# Altium schematic symbol library IC Analog.SchLib: 75 symbols
Pins are listed as number, name and electrical type; pins without a type are passive.

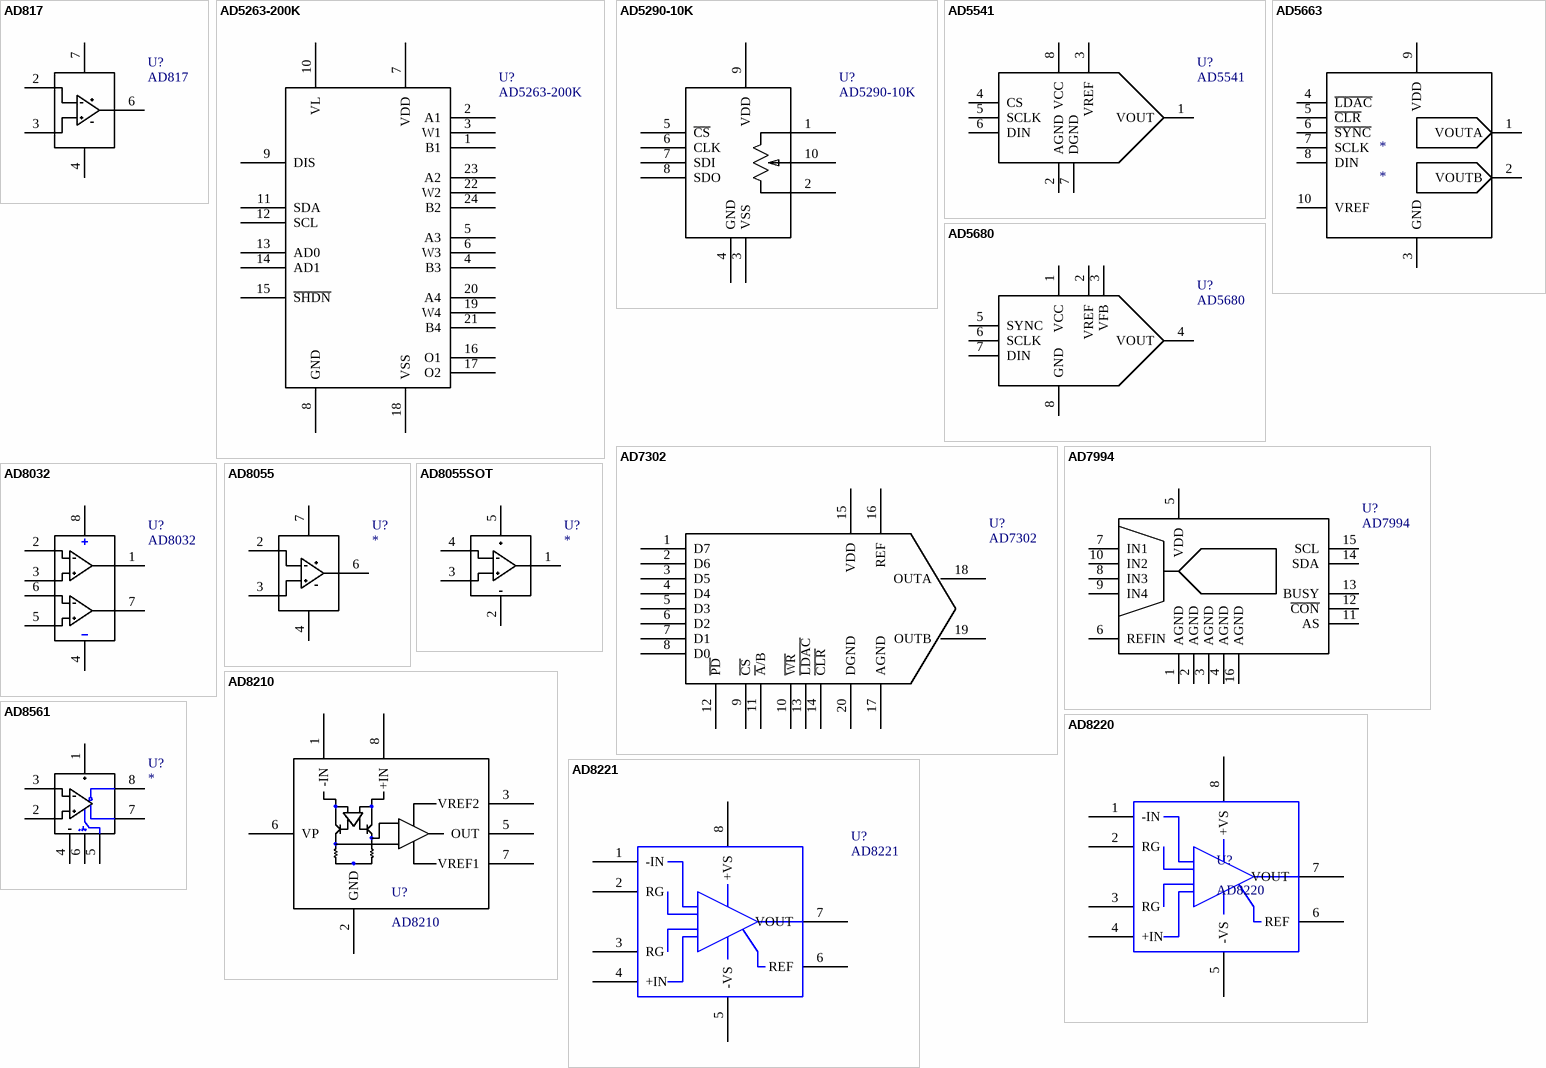
[diagram p0: symbols AD817 to AD8561]

## AD817
designator U?
OPAMP; Manufacturer Part Number: AD817ARZ; Manufacturer: Analog Devices Inc; Slew Rate: 350 V/µs; Current - Supply: 7mA; Number of Circuits: 1; Voltage - Supply, Single/Dual (±): 5 V ~ 36 V, ±2.5 V ~ 18 V; -3db Bandwidth: 50MHz; Current - Output / Channel: 50mA; Supplier 1: Digi-Key; Supplier Part Number 1: AD817ARZ-ND; Supplier Part Number: AD817ARZ-ND; Applications: General Purpose; Packaging: Tube; Package / Case: 8-SOIC (3.9mm Width); Supplier Device Package: *; Output Type: -; RoHS: RoHS Compliant; Category: Integrated Circuits (ICs); Mounting Type: Surface Mount; Supplier: Digi-Key
footprint SO8
pins: 2, 3, 4, 6, 7

## AD5263-200K
designator U?
QUAD DIGITAL POTMETER; Manufacturer Part Number: AD5263BRU200; Manufacturer: Analog Devices Inc; Voltage - Supply: 2.7 V ~ 16.5 V, ±4.5 V ~ 7.5 V; Temperature Coefficient: 30 ppm/°C Typical; Taps: 256; Resistance In Ohms: 200K; Number of Circuits: 4; Memory Type: Volatile; Interface: I²C, SPI; Supplier 1: Digi-Key; Supplier Part Number 1: AD5263BRU200-ND; Package / Case: 24-TSSOP; Category: Integrated Circuits (ICs); Operating Temperature: -40°C ~ 125°C; Supplier Part Number: AD5263BRU200-ND; Packaging: Tube; RoHS: RoHS non-compliant; Supplier: Digi-Key
footprint TSSOP24
pins: 1 B1, 2 A1, 3 W1, 4 B3, 5 A3, 6 W3, 7 VDD, 8 GND, 9 DIS, 10 VL, 11 SDA, 12 SCL, 13 AD0, 14 AD1, 15 ~{SHDN}, 16 O1, 17 O2, 18 VSS, 19 W4, 20 A4, 21 B4, 22 W2, 23 A2, 24 B2

## AD5290-10K
designator U?
AD5290 DIGITAL POTMETER; Manufacturer: Analog Devices Inc; Manufacturer Part Number: AD5290YRMZ10; Voltage - Supply: 4.5 V ~ 30 V, ±4.5 V ~ 15 V; Number of Circuits: 1; Resistance In Ohms: 10K; Memory Type: Volatile; Temperature Coefficient: 35 ppm/°C Typical; Interface: SPI, 3-Wire Serial; Taps: 256; Supplier 1: Digi-Key; Supplier Part Number 1: AD5290YRMZ10-ND; Category: Integrated Circuits (ICs); Supplier Part Number: AD5290YRMZ10-ND; RoHS: RoHS Compliant; Package / Case: 10-MSOP, Micro10™, 10-uMAX, 10-uSOP; Supplier: Digi-Key; Operating Temperature: -40°C ~ 125°C; Packaging: Tube
footprint Msop10
pins: 1 A, 2 B, 3 VSS, 4 GND, 5 ~{CS}, 6 CLK, 7 SDI, 8 SDO, 9 VDD, 10 W

## AD5541
designator U?
16 BIT D/A CONVERTOR; Manufacturer Part Number: AD5541JRZ; Manufacturer: Analog Devices Inc; Settling Time: 1µs; Voltage Supply Source: Single Supply; Data Interface: Serial; Number of Bits: 16; Power Dissipation (Max): 6.05mW; Number of Converters: 1; Number of Outputs and Type: 1 Voltage, Unipolar; 1 Voltage, Bipolar; Supplier 1: Digi-Key; Supplier Part Number 1: AD5541JRZ-ND; RoHS: RoHS Compliant; Supplier Part Number: AD5541JRZ-ND; Supplier: Digi-Key; Operating Temperature: 0°C ~ 70°C; Category: Integrated Circuits (ICs); Packaging: Tube; Package / Case: 8-SOIC (3.9mm Width)
footprint so8
pins: 1 VOUT, 2 AGND, 3 VREF, 4 CS, 5 SCLK, 6 DIN, 7 DGND, 8 VCC

## AD5663
designator *
Supplier 1: Digi-Key; Supplier Part Number 1: AD5663ARMZ-ND
pins: 1 VOUTA, 2 VOUTB, 3 GND, 4 ~{LDAC}, 5 ~{CLR}, 6 ~{SYNC}, 7 SCLK, 8 DIN, 9 VDD, 10 VREF

## AD5680
designator U?
18 BIT D/A CONVERTOR; Manufacturer: Analog Devices Inc; Manufacturer Part Number: AD5680BRJZ-2REEL7; Power Dissipation (Max): 2.25mW; Settling Time: 80µs; Number of Converters: 1; Number of Outputs and Type: 1 Voltage, Unipolar; Number of Bits: 18; Data Interface: Serial; Voltage Supply Source: Single Supply; Supplier 1: Digi-Key; Supplier Part Number 1: AD5680BRJZ-2REEL7DKR-ND; Supplier: Digi-Key; Supplier Part Number: AD5680BRJZ-2REEL7DKR-ND; Operating Temperature: -40°C ~ 105°C; Package / Case: SOT-23-8; RoHS: RoHS Compliant; Category: Integrated Circuits (ICs); Packaging: Digi-Reel®
footprint SOT23-8
pins: 1 VCC, 2 VREF, 3 VFB, 4 VOUT, 5 SYNC, 6 SCLK, 7 DIN, 8 GND

## AD7302
designator U?
DUAL 8 BIT D/A CONVERTOR; Manufacturer Part Number: AD7302BRZ; Manufacturer: Analog Devices Inc; Number of Bits: 8; Data Interface: Parallel; Number of Outputs and Type: 2 Voltage, Unipolar; 2 Voltage, Bipolar; Power Dissipation (Max): 24.8mW; Voltage Supply Source: Single Supply; Settling Time: 1.2µs; Number of Converters: 2; Supplier 1: Digi-Key; Supplier Part Number 1: AD7302BRZ-ND; Category: Integrated Circuits (ICs); Operating Temperature: -40°C ~ 105°C; Supplier: Digi-Key; Supplier Part Number: AD7302BRZ-ND; Packaging: Tube; Package / Case: 20-SOIC (7.5mm Width); RoHS: RoHS Compliant
footprint SO20
pins: 1 D7, 2 D6, 3 D5, 4 D4, 5 D3, 6 D2, 7 D1, 8 D0, 9 ~{CS}, 10 ~{WR}, 11 ~{A}/B, 12 ~{PD}, 13 ~{LDAC}, 14 ~{CLR}, 15 VDD, 16 REF, 17 AGND, 18 OUTA, 19 OUTB, 20 DGND

## AD7994
designator U?
4 CHANNEL 12 BIT A/D CONVERTOR; Manufacturer: Analog Devices Inc; Manufacturer Part Number: AD7994BRUZ-0; Data Interface: I²C; Number of Bits: 12; Number of Converters: 1; Number of Inputs and Type: 4 Single-Ended, Unipolar; Voltage Supply Source: Single Supply; Power Dissipation (Max): 2.2mW; Sampling Rate (Per Second): 188k; Supplier 1: Digi-Key; Supplier Part Number 1: AD7994BRUZ-0-ND; Operating Temperature: -40°C ~ 125°C; Package / Case: 16-TSSOP; RoHS: RoHS Compliant; Packaging: Tube; Supplier: Digi-Key; Supplier Part Number: AD7994BRUZ-0-ND; Category: Integrated Circuits (ICs)
footprint TSSOP16
pins: 1 AGND, 2 AGND, 3 AGND, 4 AGND, 5 VDD, 6 REFIN, 7 IN1, 8 IN3, 9 IN4, 10 IN2, 11 AS, 12 ~{CON}, 13 BUSY, 14 SDA, 15 SCL, 16 AGND

## AD8032
designator U?
DUAL OPAMP; Manufacturer Part Number: AD8032ARZ; Manufacturer: Analog Devices Inc; Text Field1: ST; Text Field2: LM2903DT; Text Field3: Avnet; Text Field5: SO8; Text Field6: 0.078; Voltage - Input Offset: 1000µV; Slew Rate: 35 V/µs; Number of Circuits: 2; Voltage - Supply, Single/Dual (±): 2.7 V ~ 12 V, ±1.35 V ~ 6 V; Current - Input Bias: 450nA; Current - Output / Channel: 15mA; Output Type: Rail-to-Rail; Amplifier Type: Voltage Feedback; Current - Supply: 900µA; Text Field4: LM2903DT; NI?: *; O?: *; Section:: *; Supplier 1: Digi-Key; Supplier Part Number 1: AD8032ARZ-ND; Gain Bandwidth Product: -; Supplier: Digi-Key; Package / Case: 8-SOIC (3.9mm Width); Operating Temperature: -40°C ~ 85°C; Supplier Part Number: AD8032ARZ-ND; Packaging: Tube; RoHS: RoHS Compliant; Category: Integrated Circuits (ICs)
footprint SO8
pins: 1, 2, 3, 4, 5, 6, 7, 8

## AD8055
designator U?
OPAMP; Manufacturer Part Number: AD8055AR; Manufacturer: Analog Devices Inc; Text Field1: ST; Text Field2: LM2903DT; Text Field3: Avnet; Text Field5: SO8; Text Field6: 0.078; Amplifier Type: Voltage Feedback; Voltage - Input Offset: 3000µV; Current - Output / Channel: 60mA; Current - Supply: 5.4mA; Voltage - Supply, Single/Dual (±): 8 V ~ 12 V, ±4 V ~ 6 V; Number of Circuits: 1; Slew Rate: 1400 V/µs; Current - Input Bias: 400nA; Text Field4: LM2903DT; NI?: *; O?: *; Section:: *; Supplier 1: Digi-Key; Supplier Part Number 1: AD8055AR-ND; Category: Integrated Circuits (ICs); RoHS: RoHS non-compliant; Gain Bandwidth Product: -; Supplier Part Number: AD8055AR-ND; Output Type: -; Operating Temperature: -40°C ~ 125°C; Supplier: Digi-Key; Package / Case: 8-SOIC (3.9mm Width); Packaging: Tube
footprint SO8
pins: 2, 3, 4, 6, 7

## AD8055SOT
designator U?
OPAMP SOT23; Manufacturer Part Number: AD8055ARTZ-REEL7; Manufacturer: Analog Devices Inc; Text Field1: ST; Text Field2: LM2903DT; Text Field3: Avnet; Text Field5: SO8; Text Field6: 0.078; Current - Input Bias: 400nA; Number of Circuits: 1; Current - Output / Channel: 60mA; Voltage - Input Offset: 3000µV; Amplifier Type: Voltage Feedback; Current - Supply: 5.4mA; Slew Rate: 1400 V/µs; Voltage - Supply, Single/Dual (±): 8 V ~ 12 V, ±4 V ~ 6 V; Text Field4: LM2903DT; NI?: *; O?: *; Section:: *; Supplier 1: Digi-Key; Supplier Part Number 1: AD8055ARTZ-REEL7TR-ND; Operating Temperature: -40°C ~ 125°C; Supplier: Digi-Key; Gain Bandwidth Product: -; Package / Case: SOT-23-5, SC-74A, SOT-25; Output Type: -; Supplier Part Number: AD8055ARTZ-REEL7TR-ND; Packaging: Tape & Reel (TR); Category: Integrated Circuits (ICs); RoHS: RoHS Compliant
footprint SOT23-5
pins: 1, 2, 3, 4, 5

## AD8210
designator U?
INSTRUMENTATION AMPLIFIER
footprint SO8
pins: 1 -IN, 2 GND, 3 VREF2, 5 OUT, 6 VP, 7 VREF1, 8 +IN

## AD8220
designator U?
INSTRUMENTATION AMPLIFIER; Manufacturer: Analog Devices Inc; Manufacturer Part Number: AD8220ARMZ-R7; Current - Input Bias: 25pA; Voltage - Supply, Single/Dual (±): 4.5 V ~ 36 V, ±2.25 V ~ 18 V; Voltage - Input Offset: 250µV; Current - Supply: 750µA; Current - Output / Channel: 15mA; Slew Rate: 2 V/µs; Output Type: Rail-to-Rail; Number of Circuits: 1; Supplier 1: Digi-Key; Supplier Part Number 1: AD8220ARMZ-R7TR-ND; Package / Case: 8-MSOP, Micro8™, 8-uMAX, 8-uSOP,; Operating Temperature: -40°C ~ 85°C; Packaging: Tape & Reel (TR); Supplier Part Number: AD8220ARMZ-R7TR-ND; Gain Bandwidth Product: -; Amplifier Type: Instrumentation; RoHS: RoHS Compliant; Supplier: Digi-Key; Category: Integrated Circuits (ICs)
footprint MSOP8
pins: 1 -IN, 2 RG, 3 RG, 4 +IN, 5 -VS, 6 REF, 7 VOUT, 8 +VS

## AD8221
designator U?
INSTRUMENTATION AMPLIFIER; Manufacturer: Analog Devices Inc; Manufacturer Part Number: AD8221ARZ-RL; Current - Input Bias: 500pA; Voltage - Input Offset: 60µV; Voltage - Supply, Single/Dual (±): ±2.3 V ~ 18 V; Slew Rate: 2 V/µs; Number of Circuits: 1; Current - Supply: 900µA; Current - Output / Channel: 18mA; Supplier 1: Digi-Key; Supplier Part Number 1: AD8221ARZ-RL-ND; Package / Case: 8-SOIC (3.9mm Width); Output Type: -; Gain Bandwidth Product: -; Operating Temperature: -40°C ~ 85°C; Packaging: Tape & Reel (TR); RoHS: RoHS Compliant; Supplier: Digi-Key; Category: Integrated Circuits (ICs); Supplier Part Number: AD8221ARZ-RL-ND; Amplifier Type: Instrumentation
footprint SO8
pins: 1 -IN, 2 RG, 3 RG, 4 +IN, 5 -VS, 6 REF, 7 VOUT, 8 +VS

## AD8561
designator U?
ULTRAFAST COMPARATOR; Manufacturer Part Number: AD8561AR-REEL; Manufacturer: Analog Devices Inc; Text Field1: ST; Text Field2: LM2903DT; Text Field3: Avnet; Text Field5: SO8; Text Field6: 0.078; Output Type: CMOS, Complementary, TTL; Voltage - Supply: 3 V ~ 10 V, ±1.5 V ~ 5 V; Number of Elements: 1; Text Field4: LM2903DT; NI?: *; O?: *; Section:: *; Supplier 1: Digi-Key; Supplier Part Number 1: AD8561AR-REEL-ND; Packaging: Tape & Reel (TR); Package / Case: 8-SOIC (3.9mm Width); Category: Integrated Circuits (ICs); Type: General Purpose; Supplier Part Number: AD8561AR-REEL-ND; Supplier: Digi-Key; RoHS: RoHS non-compliant
footprint SO8
pins: 1, 2, 3, 4, 5, 6, 7, 8

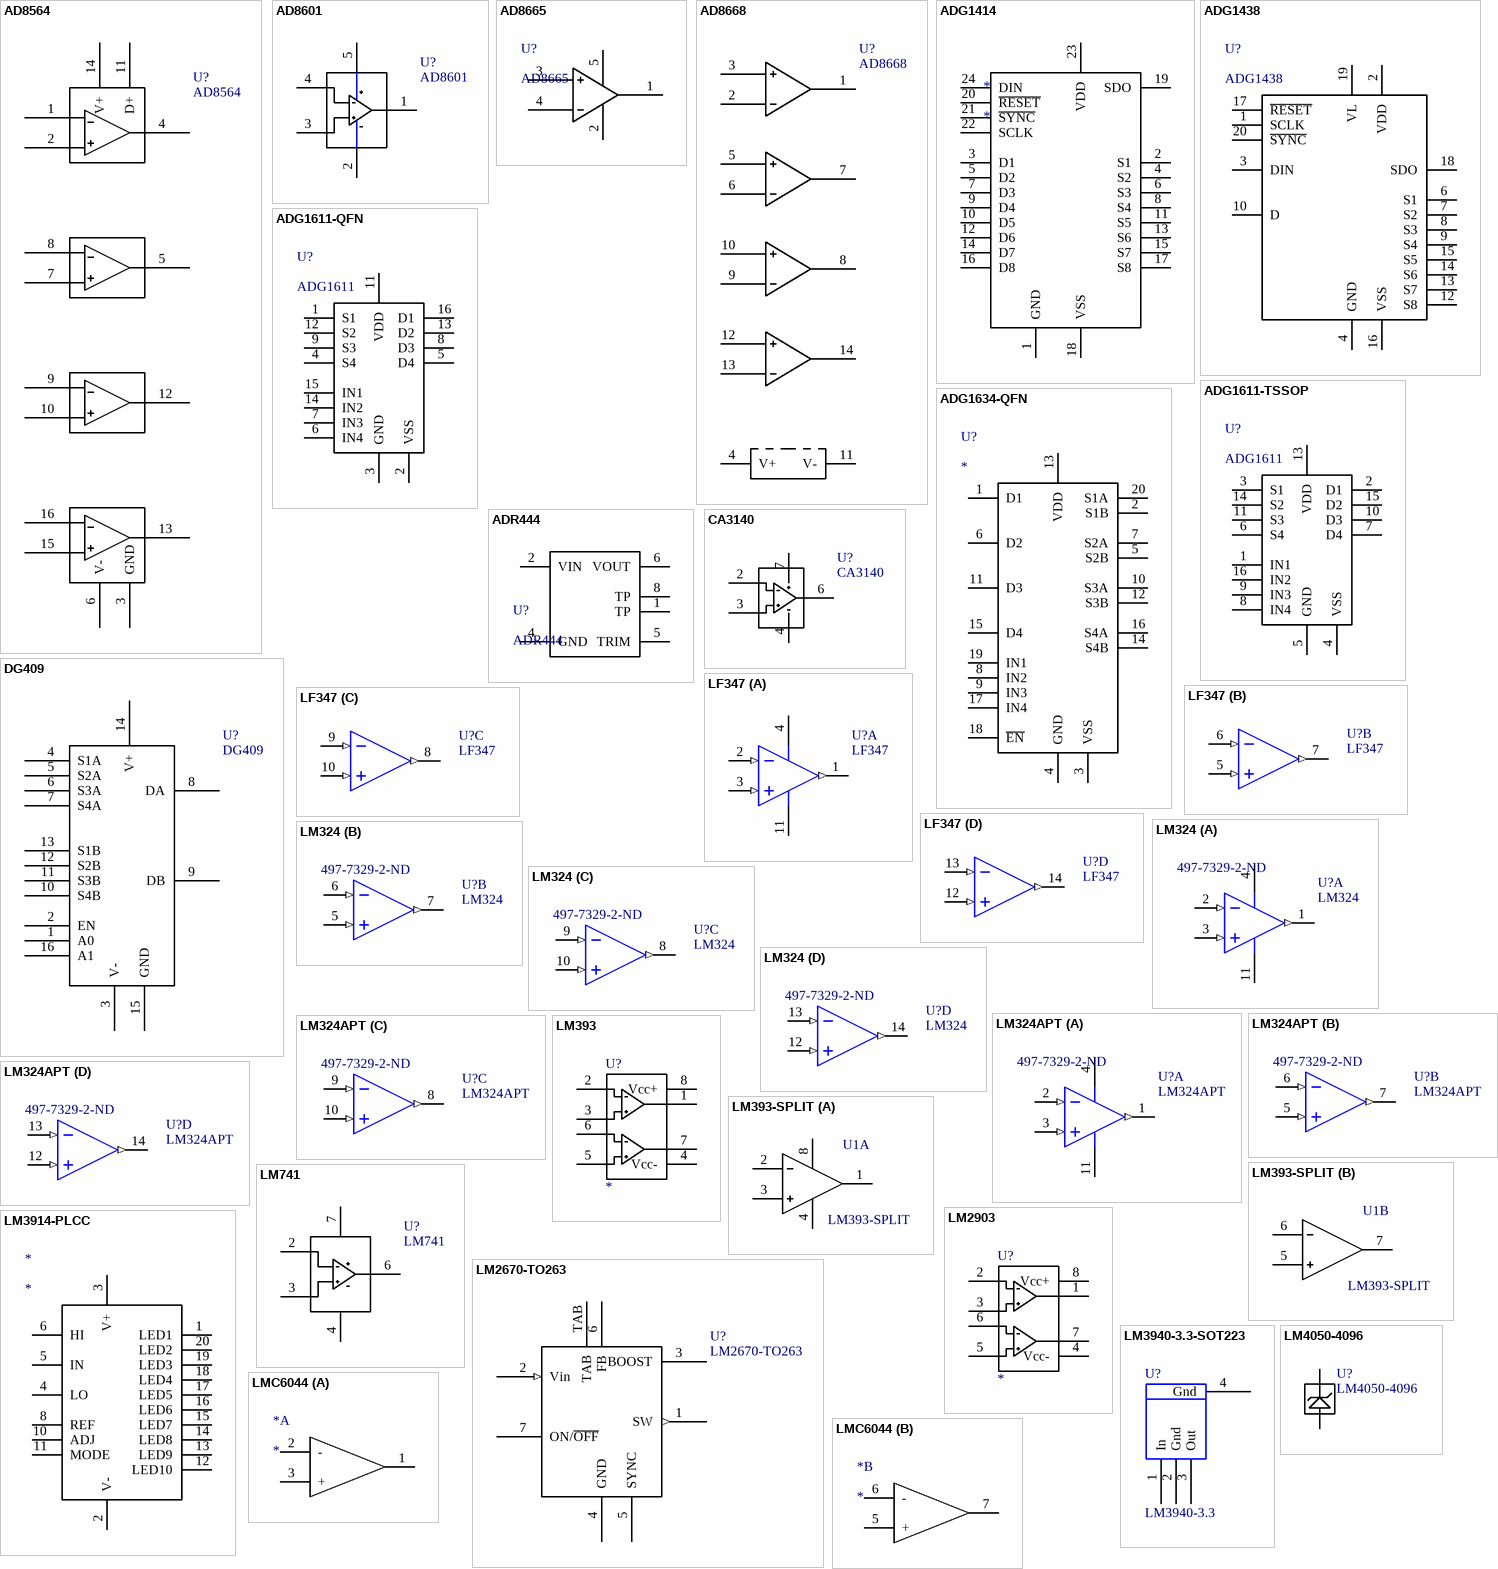
[diagram p1: symbols AD8564 to LMC6044]

## AD8564
designator U?
QUAD FAST COMPARATOR; Manufacturer Part Number: AD8564ARZ; Manufacturer: Analog Devices Inc; Output Type: CMOS, TTL; Number of Elements: 4; Supplier 1: Digi-Key; Supplier Part Number 1: AD8564ARZ-ND; Package / Case: 16-SOIC (3.9mm Width); RoHS: RoHS Compliant; Type: General Purpose; Packaging: Tube; Supplier: Digi-Key; Category: Integrated Circuits (ICs); Voltage - Supply: -; Supplier Part Number: AD8564ARZ-ND
footprint SO16
pins: 1 -A, 2 +A, 3 GND, 4 OA, 5 OB, 6 V-, 7 +B, 8 -B, 9 -C, 10 +C, 11 D+, 12 OC, 13 OD, 14 V+, 15 +D, 16 -D

## AD8601
designator U?
RAIL TO RAIL OPAMP; Manufacturer: Analog Devices Inc; Manufacturer Part Number: AD8601WDRTZ-REEL7; Text Field1: ST; Text Field2: LM2903DT; Text Field3: Avnet; Text Field5: SO8; Text Field6: 0.078; Voltage - Input Offset: 1300µV; Current - Supply: 750µA; Number of Circuits: 1; Slew Rate: 6 V/µs; Voltage - Supply, Single/Dual (±): 2.7 V ~ 5.5 V; Current - Input Bias: 0.2pA; Amplifier Type: General Purpose; Output Type: Rail-to-Rail; Current - Output / Channel: 50mA; Gain Bandwidth Product: 8.4MHz; Text Field4: LM2903DT; NI?: *; O?: *; Section:: *; Supplier 1: Digi-Key; Supplier Part Number 1: AD8601WDRTZ-REEL7CT-ND; RoHS: RoHS Compliant; Category: Integrated Circuits (ICs); Supplier Part Number: AD8601WDRTZ-REEL7CT-ND; Operating Temperature: -40°C ~ 125°C; Packaging: Cut Tape (CT); Supplier: Digi-Key; Package / Case: SOT-23-5, SC-74A, SOT-25
footprint SOT23-5
pins: 1, 2, 3, 4, 5

## AD8665
designator U?
Supplier 1: Digi-Key; Supplier Part Number 1: AD8665ARJZ-REEL7TR-ND
pins: 1 a, 2 VP, 3 +, 4 -, 5 VP

## AD8668
designator U?
QUAD COMPARATOR SO16; Manufacturer Part Number: LT1721CS; Manufacturer: Linear Technology; Output Type: CMOS, Rail-to-Rail, TTL; Number of Elements: 4; Voltage - Supply: 2.7 V ~ 6 V; Supplier 1: Digi-Key; Supplier Part Number 1: LT1721CS-ND; Supplier: Digi-Key; RoHS: RoHS non-compliant; Type: General Purpose; Package / Case: 16-SOIC (3.9mm Width); Category: Integrated Circuits (ICs); Supplier Part Number: LT1721CS-ND; Packaging: Tube
footprint SO14
pins: 1 a, 2 -, 3 +, 4 V+, 5 +, 6 -, 7 b, 8 D, 9 -, 10 +, 11 V-, 12 +, 13 -, 14 C

## ADG1414
designator *
footprint LFCSP-24 (QFN, 24-Leads, Body 4.2x4.2mm (max), Pitch 0.50mm, IPC Medium Density)
pins: 1 GND, 2 S1, 3 D1, 4 S2, 5 D2, 6 S3, 7 D3, 8 S4, 9 D4, 10 D5, 11 S5, 12 D6, 13 S6, 14 D7, 15 S7, 16 D8, 17 S8, 18 VSS, 19 SDO, 20 ~{RESET}, 21 ~{SYNC}, 22 SCLK, 23 VDD, 24 DIN

## ADG1438
designator U?
footprint TSSOP20
pins: 1 SCLK, 2 VDD, 3 DIN, 4 GND, 6 S1, 7 S2, 8 S3, 9 S4, 10 D, 12 S8, 13 S7, 14 S6, 15 S5, 16 VSS, 17 ~{RESET}, 18 SDO, 19 VL, 20 ~{SYNC}

## ADG1611-QFN
designator U?, comment ADG1611
footprint LFCSP-16
pins: 1 S1, 2 VSS, 3 GND, 4 S4, 5 D4, 6 IN4, 7 IN3, 8 D3, 9 S3, 11 VDD, 12 S2, 13 D2, 14 IN2, 15 IN1, 16 D1

## ADG1611-TSSOP
designator U?, comment ADG1611
footprint TSSOP16
pins: 1 IN1, 2 D1, 3 S1, 4 VSS, 5 GND, 6 S4, 7 D4, 8 IN4, 9 IN3, 10 D3, 11 S3, 13 VDD, 14 S2, 15 D2, 16 IN2

## ADG1634-QFN
designator U?
footprint LFCSP-20
pins: 1 D1, 2 S1B, 3 VSS, 4 GND, 5 S2B, 6 D2, 7 S2A, 8 IN2, 9 IN3, 10 S3A, 11 D3, 12 S3B, 13 VDD, 14 S4B, 15 D4, 16 S4A, 17 IN4, 18 ~{EN}, 19 IN1, 20 S1A

## ADR444
designator U?
Supplier 1: Digi-Key; Supplier Part Number 1: ADR444ARZ-ND
pins: 1 TP, 2 VIN, 4 GND, 5 TRIM, 6 VOUT, 8 TP

## CA3140
designator U?
BIMOS OPAMP; Manufacturer: Intersil; Manufacturer Part Number: CA3140MZ; Text Field1: ST; Text Field2: LM2903DT; Text Field3: Avnet; Text Field5: SO8; Text Field6: 0.078; Voltage - Input Offset: 5000µV; Gain Bandwidth Product: 4.5MHz; Slew Rate: 9 V/µs; Current - Input Bias: 10pA; Voltage - Supply, Single/Dual (±): 4 V ~ 36 V, ±2 V ~ 18 V; Amplifier Type: General Purpose; Number of Circuits: 1; Current - Supply: 4mA; Current - Output / Channel: 40mA; Text Field4: LM2903DT; NI?: *; O?: *; Section:: *; Supplier 1: Digi-Key; Supplier Part Number 1: CA3140MZ-ND; Supplier: Digi-Key; Package / Case: 8-SOIC (3.9mm Width); Operating Temperature: -55°C ~ 125°C; RoHS: RoHS Compliant; Category: Integrated Circuits (ICs); Supplier Part Number: CA3140MZ-ND; Packaging: Tube; Output Type: -
footprint SO8
pins: 2, 3, 4, 6, 7

## DG409
designator U?
DIFFERENTIAL 4 CHANNEL MULTIPLEXER; Manufacturer Part Number: DG409DY-T1-E3; Manufacturer: Vishay/Siliconix; On-State Resistance: 100 Ohm; Voltage - Supply, Single/Dual (±): ±5 V ~ 20 V; Circuit: 2 x 4:2; Current - Supply: 1µA; Voltage Supply Source: Dual Supply; Supplier 1: Digi-Key; Supplier Part Number 1: DG409DY-T1-E3DKR-ND; Function: Multiplexer; Mounting Type: Surface Mount; Operating Temperature: -40°C ~ 85°C; Category: Integrated Circuits (ICs); Supplier Part Number: DG409DY-T1-E3DKR-ND; Supplier: Digi-Key; Package / Case: 16-SOIC (3.9mm Width); Packaging: Digi-Reel®; RoHS: RoHS Compliant
footprint SO16
pins: 1 A0, 2 EN, 3 V-, 4 S1A, 5 S2A, 6 S3A, 7 S4A, 8 DA, 9 DB, 10 S4B, 11 S3B, 12 S2B, 13 S1B, 14 V+, 15 GND, 16 A1

## LF347
designator U?
Low Power Quad Operational Amplifier; Manufacturer Part Number: LF347BD; Manufacturer: Texas Instruments; Text Field1: pristel=Nsc\nsanopea\<parttype>.ckt; Slew Rate: 13 V/µs; Voltage - Supply, Single/Dual (±): 7 V ~ 36 V, ±3.5 V ~ 18 V; Current - Input Bias: 50pA; Voltage - Input Offset: 3000µV; Number of Circuits: 4; Gain Bandwidth Product: 3MHz; Amplifier Type: J-FET; Current - Supply: 8mA; Supplier 1: Digi-Key; Supplier Part Number 1: 296-7136-5-ND; Package / Case: 14-SOIC (3.9mm Width), 14-SOL; Supplier: Digi-Key; Current - Output / Channel: -; Packaging: Tube; RoHS: RoHS Compliant; Output Type: -; Operating Temperature: 0°C ~ 70°C; Category: Integrated Circuits (ICs); Supplier Part Number: 296-7136-5-ND
footprint SO14
part A pins: 1 1 OUT (out), 2 1 IN- (in), 3 1 IN+ (in), 4 VCC (power), 11 VEE (power)
part B pins: 5 2 IN+ (in), 6 2 IN- (in), 7 2 OUT (out)
part C pins: 8 3 OUT (out), 9 3 IN- (in), 10 3 IN+ (in)
part D pins: 12 4 IN+ (in), 13 4 IN- (in), 14 4 OUT (out)

## LM324
designator U?  Supplier Part Number 1: 497-7329-2-ND
Low Power Quad Operational Amplifier; Supplier 1: Digi-Key
footprint SO14
footprint TSSOP14
part A pins: 1 1 OUT (out), 2 1 IN- (in), 3 1 IN+ (in), 4 VCC (power), 11 VEE (power)
part B pins: 5 2 IN+ (in), 6 2 IN- (in), 7 2 OUT (out)
part C pins: 8 3 OUT (out), 9 3 IN- (in), 10 3 IN+ (in)
part D pins: 12 4 IN+ (in), 13 4 IN- (in), 14 4 OUT (out)

## LM324APT
designator U?  Supplier Part Number 1: 497-7329-2-ND
Low Power Quad Operational Amplifier; Supplier 1: Digi-Key
footprint TSSOP14
part A pins: 1 1 OUT (out), 2 1 IN- (in), 3 1 IN+ (in), 4 VCC (power), 11 VEE (power)
part B pins: 5 2 IN+ (in), 6 2 IN- (in), 7 2 OUT (out)
part C pins: 8 3 OUT (out), 9 3 IN- (in), 10 3 IN+ (in)
part D pins: 12 4 IN+ (in), 13 4 IN- (in), 14 4 OUT (out)

## LM393
designator U?
IC DUAL COMPARATOR
footprint SO8
pins: 1, 2, 3, 4 Vcc-, 5, 6, 7, 8 Vcc+

## LM393-SPLIT
designator U1
IC DUAL COMPARATOR; Supplier 1: Digi-Key; Supplier Part Number 1: LM393MXFSDKR-ND
footprint SO8
part A pins: 1, 2, 3, 4 Vcc-, 8 Vcc+
part B pins: 5, 6, 7

## LM741
designator U?
OPAMP
footprint SO8
pins: 2, 3, 4, 6, 7

## LM2670-TO263
designator U?
3A, HIGH EFFICIENCY STEP-DOWN VR; Manufacturer Part Number: LM2670S-3.3/NOPB; Text Field4: NATIONAL SEMICONDUCTOR; Text Field7: JAMES CHUNG; Voltage - Input: 8 ~ 40 V; Synchronous: Yes; Voltage - Output: 3.3V; Rds (On): 150 mOhm; Number of Outputs: 1; Frequency - Switching: 260kHz; Supplier 1: Digi-Key; Supplier Part Number 1: LM2670S-3.3-ND; Current - Output: 3A; Power - Output: -; Manufacturer: National Semiconductor; Operating Temperature: -40°C ~ 125°C; Supplier: Digi-Key; Category: Integrated Circuits (ICs); Package / Case: D²Pak, TO-263 (7 leads + tab); Supplier Part Number: LM2670S-3.3-ND; Type: Step-Down (Buck); Packaging: Tube; Internal Switch(s): Yes; RoHS: RoHS Compliant
footprint TO263-7
pins: 1 SW (out), 2 Vin (in), 3 BOOST, 4 GND (power), 5 SYNC, 6 FB, 7 ON/~{OFF}, TAB

## LM2903
designator U?
IC DUAL COMPARATOR; Manufacturer: STMicroelectronics; Manufacturer Part Number: LM2903HDT; Text Field1: ST; Text Field2: LM2903DT; Text Field3: Avnet; Text Field5: SO8; Text Field6: 0.078; Voltage - Supply: 2 V ~ 36 V, ±1 V ~ 18 V; Output Type: CMOS, DTL, ECL, MOS, Open-Collector, TTL; Number of Elements: 2; Text Field4: LM2903DT; NI?: *; O?: *; Section:: *; Supplier 1: Digi-Key; Supplier Part Number 1: 497-4260-2-ND; RoHS: RoHS non-compliant; Package / Case: 8-SOIC (3.9mm Width); Supplier Part Number: 497-4260-2-ND; Type: General Purpose; Supplier: Digi-Key; Category: Integrated Circuits (ICs); Packaging: Tape & Reel (TR)
footprint SO8
pins: 1, 2, 3, 4 Vcc-, 5, 6, 7, 8 Vcc+

## LM3914-PLCC
designator *
Supplier 1: Digi-Key; Supplier Part Number 1: LM3914V-ND
footprint PLCC20 (Footprint not found)
pins: 1 LED1, 2 V-, 3 V+, 4 LO, 5 IN, 6 HI, 8 REF, 10 ADJ, 11 MODE, 12 LED10, 13 LED9, 14 LED8, 15 LED7, 16 LED6, 17 LED5, 18 LED4, 19 LED3, 20 LED2

## LM3940-3.3-SOT223
designator U?, comment LM3940-3.3
3.3 VOLT LINEAR REGULATOR SOT223; Manufacturer: National Semiconductor; Manufacturer Part Number: LM3940IMP-3.3/NOPB; Number of Regulators: 1; Regulator Topology: Positive Fixed; Voltage - Output: 3.3V; Current - Output: 1A; Voltage - Input: 4.5 ~ 5.5 V; Voltage - Dropout (Typical): 0.11V @ 100mA; Supplier 1: Digi-Key; Supplier Part Number 1: LM3940IMP-3.3DKR-ND; Package / Case: SOT-223 (3 leads + Tab), SC-73, TO-261AA; Operating Temperature: -40°C ~ 125°C; Supplier Part Number: LM3940IMP-3.3DKR-ND; Supplier: Digi-Key; Current - Limit (Min): -; Packaging: Digi-Reel®; RoHS: RoHS Compliant; Category: Integrated Circuits (ICs)
footprint SOT223
pins: 1 In, 2 Gnd, 3 Out, 4 Gnd

## LM4050-4096
designator U?
REFERENCE DIODE 4.096 VOLT; Manufacturer Part Number: LT1962EMS8-1.5#PBF; Manufacturer: Linear Technology; Tolerance: ±0.2%; Temperature Coefficient: 50ppm/°C; Number of Channels: 1; Voltage - Output: 1.5V; Reference Type: Shunt; Voltage - Input: 1.8 ~ 20 V; Current - Output: 300mA; Current - Cathode: 60µA; Voltage - Dropout (Typical): 0.27V @ 300mA; Current - Limit (Min): 320mA; Regulator Topology: Positive Fixed; Supplier 1: Digi-Key; Supplier Part Number 1: LM4050BIM3-2.5DKR-ND; Supplier Part Number: LM4050BIM3-2.5DKR-ND; RoHS: RoHS Compliant; Supplier: Digi-Key; Package / Case: 8-MSOP, Micro8™, 8-uMAX, 8-uSOP,; Packaging: Tube; Category: Integrated Circuits (ICs); Operating Temperature: -40°C ~ 125°C; Current - Quiescent: -; Number of Regulators: 1
footprint SOT23-123
pins: 1, 2

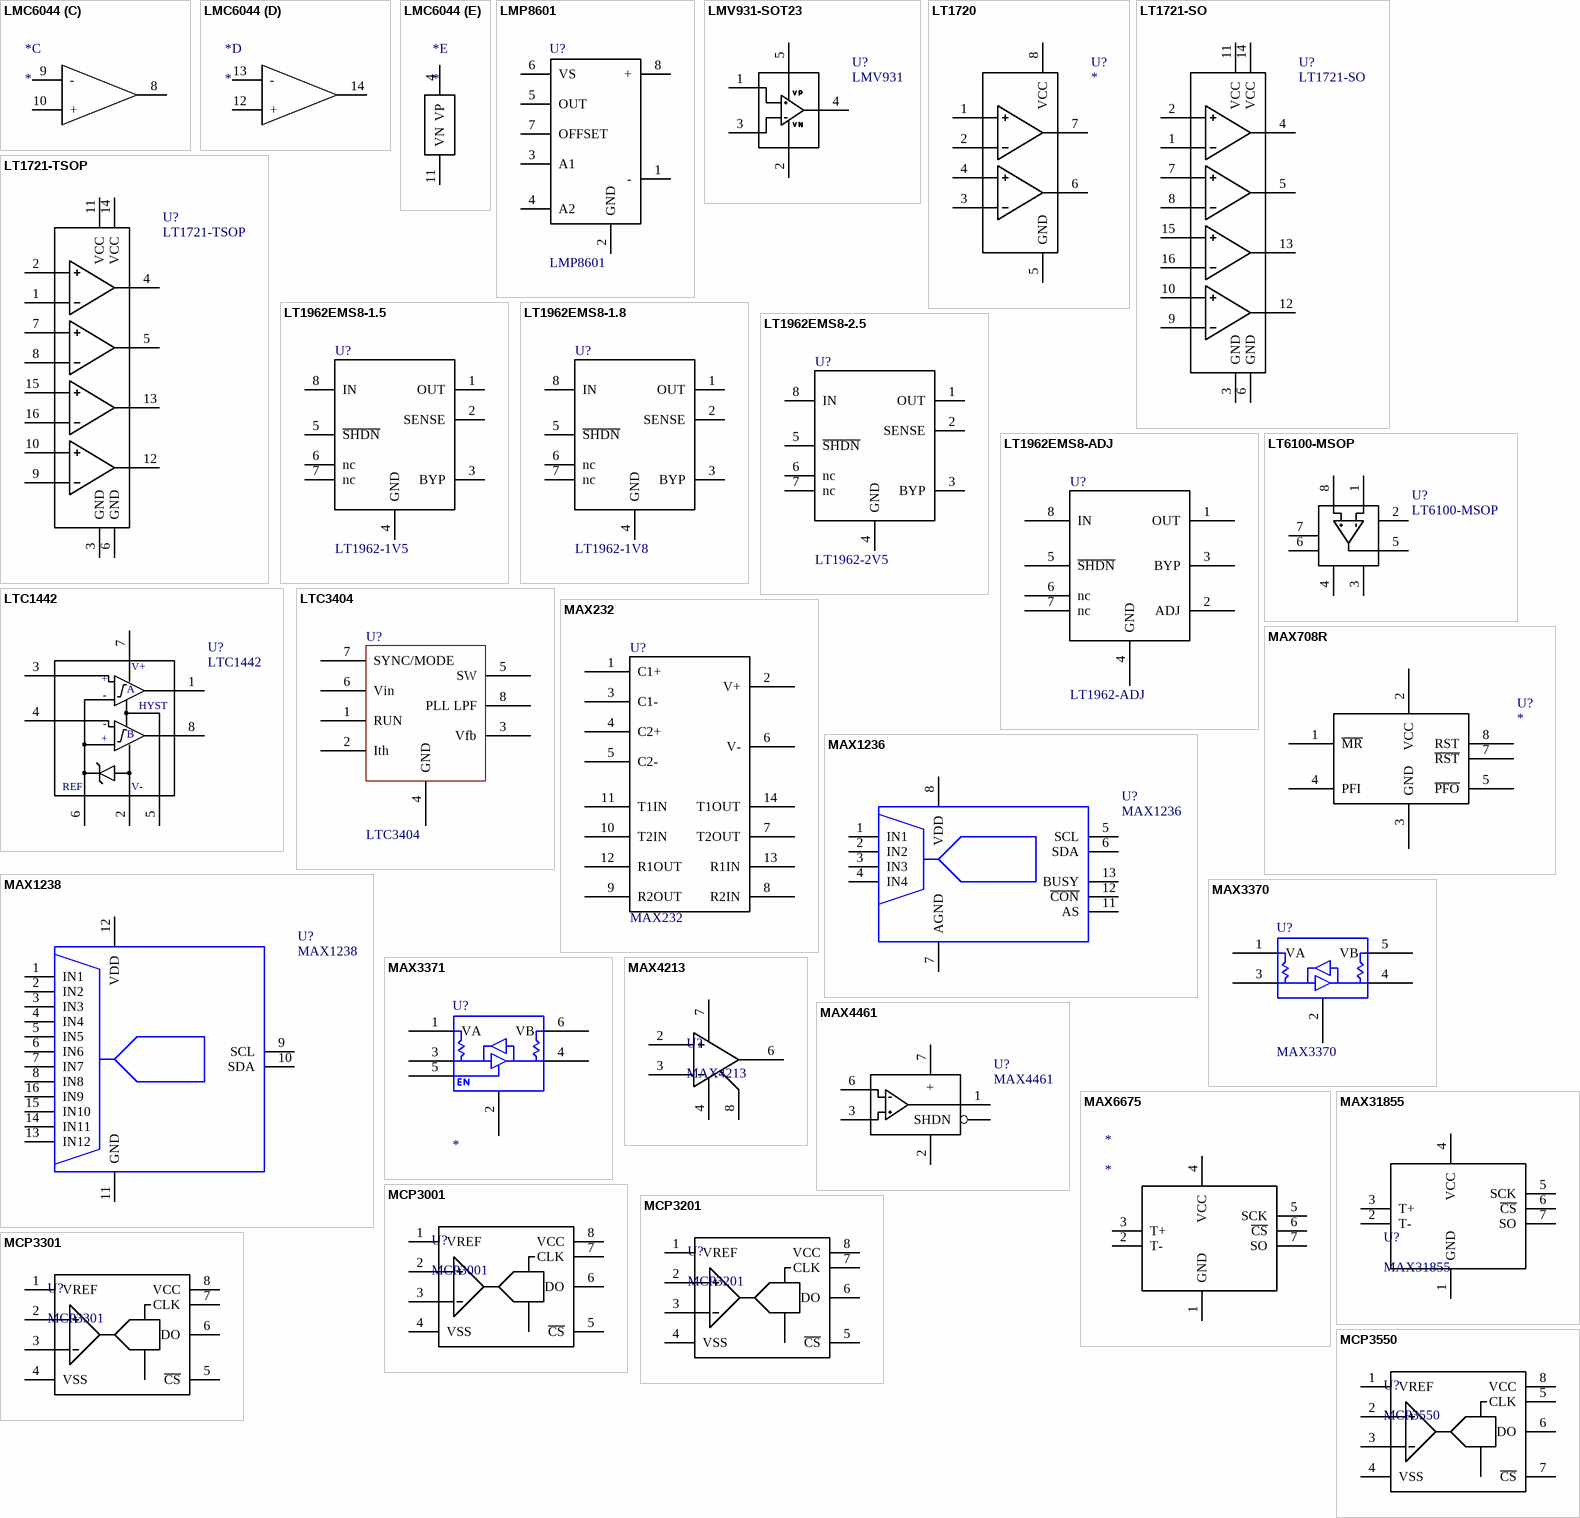
[diagram p2: symbols LMC6044 to MCP3550]

## LMC6044
designator *
Supplier 1: Digi-Key; Supplier Part Number 1: LMC6044AIMX-ND
footprint SO14
part A pins: 1, 2 -, 3 +
part B pins: 5 +, 6 -, 7
part C pins: 8, 9 -, 10 +
part D pins: 12 +, 13 -, 14
part E pins: 4 VP, 11 VN

## LMP8601
designator U?
CURRENT SENSING AMPLIFIER; Manufacturer Part Number: LMP8601MA/NOPB; Manufacturer: National Semiconductor; Amplifier Type: Current Sense; Number of Circuits: 1; Current - Input Bias: 0.04pA; Current - Supply: 1.1mA; Current - Output / Channel: 48mA; Slew Rate: 0.83 V/µs; Gain Bandwidth Product: 60kHz; Voltage - Input Offset: 150µV; Voltage - Supply, Single/Dual (±): 3 V ~ 5.5 V; Supplier 1: Digi-Key; Supplier Part Number 1: LMP8601MA-ND; Output Type: -; Operating Temperature: -40°C ~ 125°C; RoHS: RoHS Compliant; Supplier Part Number: LMP8601MA-ND; Package / Case: 8-SOIC (3.9mm Width); Packaging: Tube; Supplier: Digi-Key; Category: Integrated Circuits (ICs)
footprint SO8
pins: 1 -, 2 GND, 3 A1, 4 A2, 5 OUT, 6 VS, 7 OFFSET, 8 +

## LMV931-SOT23
designator U?, comment LMV931
OPAMP; Supplier 1: Digi-Key; Supplier Part Number 1: LMV931MFCT-ND
footprint SOT23-5
pins: 1, 2, 3, 4, 5

## LT1720
designator U?
DUAL COMPARATOR; Manufacturer: Linear Technology; Manufacturer Part Number: LT1720CS8#PBF; Output Type: CMOS, Rail-to-Rail, TTL; Number of Elements: 2; Voltage - Supply: 2.7 V ~ 6 V; Supplier 1: Digi-Key; Supplier Part Number 1: LT1720CS8#PBF-ND; Package / Case: 8-SOIC (3.9mm Width); Category: Integrated Circuits (ICs); Packaging: Tube; RoHS: RoHS Compliant; Type: General Purpose; Supplier: Digi-Key; Supplier Part Number: LT1720CS8#PBF-ND
footprint SO8
pins: 1, 2 -, 3 -, 4 +, 5 GND, 6 b, 7 a, 8 VCC

## LT1721-SO
designator U?
QUAD COMPARATOR SO16; Manufacturer Part Number: LT1721CS; Manufacturer: Linear Technology; Output Type: CMOS, Rail-to-Rail, TTL; Number of Elements: 4; Voltage - Supply: 2.7 V ~ 6 V; Supplier 1: Digi-Key; Supplier Part Number 1: LT1721CS-ND; Supplier: Digi-Key; RoHS: RoHS non-compliant; Type: General Purpose; Package / Case: 16-SOIC (3.9mm Width); Category: Integrated Circuits (ICs); Supplier Part Number: LT1721CS-ND; Packaging: Tube
footprint SO16
pins: 1 -, 2 +, 3 GND, 4 a, 5 b, 6 GND, 7 +, 8 -, 9 -, 10 +, 11 VCC, 12 C, 13 D, 14 VCC, 15 +, 16 -

## LT1721-TSOP
designator U?
QUAD COMPARATOR TSOP16; Manufacturer Part Number: LT1721IGN; Manufacturer: Linear Technology; Output Type: CMOS, Rail-to-Rail, TTL; Number of Elements: 4; Voltage - Supply: 2.7 V ~ 6 V; Supplier: Digi-Key; RoHS: RoHS non-compliant; Type: General Purpose; Package / Case: 16-SSOP; Category: Integrated Circuits (ICs); Supplier Part Number: LT1721IGN-ND; Packaging: Tube; Supplier 1: Digi-Key; Supplier Part Number 1: LT1721IGN-ND
footprint TSSOP16
pins: 1 -, 2 +, 3 GND, 4 a, 5 b, 6 GND, 7 +, 8 -, 9 -, 10 +, 11 VCC, 12 C, 13 D, 14 VCC, 15 +, 16 -

## LT1962EMS8-1.5
designator U?, comment LT1962-1V5
LDO 1.5V; Manufacturer Part Number: LT1962EMS8-1.5#PBF; Manufacturer: Linear Technology; Current - Limit (Min): 320mA; Number of Regulators: 1; Regulator Topology: Positive Fixed; Voltage - Input: 1.8 ~ 20 V; Voltage - Dropout (Typical): 0.27V @ 300mA; Current - Output: 300mA; Supplier 1: Digi-Key; Supplier Part Number 1: LT1962EMS8-1.5#PBF-ND; Supplier Part Number: LT1962EMS8-1.5#PBF-ND; Operating Temperature: -40°C ~ 125°C; Voltage - Output: 1.5V; Supplier: Digi-Key; Category: Integrated Circuits (ICs); RoHS: RoHS Compliant; Packaging: Tube; Package / Case: 8-MSOP, Micro8™, 8-uMAX, 8-uSOP,
footprint MSOP8
pins: 1 OUT, 2 SENSE, 3 BYP, 4 GND, 5 ~{SHDN}, 6 nc, 7 nc, 8 IN

## LT1962EMS8-1.8
designator U?, comment LT1962-1V8
LDO 1.8V; Manufacturer Part Number: LT1962EMS8-1.8; Manufacturer: Linear Technology; Current - Output: 300mA; Current - Limit (Min): 320mA; Voltage - Dropout (Typical): 0.27V @ 300mA; Number of Regulators: 1; Voltage - Input: Up to 20V; Regulator Topology: Positive Fixed; Supplier 1: Digi-Key; Supplier Part Number 1: LT1962EMS8-1.8-ND; Supplier Part Number: LT1962EMS8-1.8-ND; RoHS: RoHS non-compliant; Packaging: Tube; Category: Integrated Circuits (ICs); Voltage - Output: 1.8V; Package / Case: 8-MSOP, Micro8™, 8-uMAX, 8-uSOP,; Supplier: Digi-Key; Operating Temperature: -40°C ~ 125°C
footprint MSOP8
pins: 1 OUT, 2 SENSE, 3 BYP, 4 GND, 5 ~{SHDN}, 6 nc, 7 nc, 8 IN

## LT1962EMS8-2.5
designator U?, comment LT1962-2V5
LDO 2.5V; Manufacturer: Linear Technology; Manufacturer Part Number: LT1962EMS8-2.5#PBF; Current - Limit (Min): 320mA; Voltage - Input: Up to 20V; Regulator Topology: Positive Fixed; Voltage - Dropout (Typical): 0.27V @ 300mA; Current - Output: 300mA; Number of Regulators: 1; Supplier 1: Digi-Key; Supplier Part Number 1: LT1962EMS8-2.5#PBF-ND; Supplier Part Number: LT1962EMS8-2.5#PBF-ND; Operating Temperature: -40°C ~ 125°C; Package / Case: 8-MSOP, Micro8™, 8-uMAX, 8-uSOP,; Category: Integrated Circuits (ICs); Packaging: Tube; Voltage - Output: 2.5V; RoHS: RoHS Compliant; Supplier: Digi-Key
footprint MSOP8
pins: 1 OUT, 2 SENSE, 3 BYP, 4 GND, 5 ~{SHDN}, 6 nc, 7 nc, 8 IN

## LT1962EMS8-ADJ
designator U?, comment LT1962-ADJ
LDO ADJUSTABLE; Manufacturer Part Number: LT1962EMS8; Manufacturer: Linear Technology; Current - Limit (Min): 320mA; Voltage - Input: 1.8 ~ 20 V; Voltage - Dropout (Typical): 0.27V @ 300mA; Regulator Topology: Positive Adjustable; Number of Regulators: 1; Current - Output: 300mA; Voltage - Output: 1.22 ~ 20 V; Supplier Part Number: LT1962EMS8-ND; Operating Temperature: -40°C ~ 125°C; Category: Integrated Circuits (ICs); Package / Case: 8-MSOP, Micro8™, 8-uMAX, 8-uSOP,; Packaging: Tube; RoHS: RoHS non-compliant; Supplier: Digi-Key; Supplier 1: Digi-Key; Supplier Part Number 1: LT1962EMS8-ND
footprint MSOP8
pins: 1 OUT, 2 ADJ, 3 BYP, 4 GND, 5 ~{SHDN}, 6 nc, 7 nc, 8 IN

## LT6100-MSOP
designator U?
CURRENT SENSE AMPLIFIER; Manufacturer Part Number: LT6100HMS8#PBF; Manufacturer: Linear Technology; Current - Supply: 60µA; Number of Circuits: 1; Voltage - Input Offset: 80µV; Slew Rate: 0.05 V/µs; Current - Output / Channel: 15mA; Voltage - Supply, Single/Dual (±): 2.7 V ~ 36 V, ±1.35 V ~ 18 V; NI?: *; O?: *; Section:: *; Supplier 1: Digi-Key; Supplier Part Number 1: LT6100HMS8#PBF-ND; Package / Case: 8-MSOP, Micro8™, 8-uMAX, 8-uSOP,; Supplier Part Number: LT6100HMS8#PBF-ND; Amplifier Type: Current Sense; Category: Integrated Circuits (ICs); Output Type: -; RoHS: RoHS Compliant; Packaging: Tube; Operating Temperature: -40°C ~ 125°C; Gain Bandwidth Product: -; Supplier: Digi-Key; Current - Input Bias: -
footprint MSOP8
pins: 1, 2, 3, 4, 5, 6, 7, 8

## LTC1442
designator U?
DUAL COMPARATOR WITH REFERENCE; Manufacturer Part Number: LTC1442CS8#PBF; Manufacturer: Linear Technology; Number of Elements: 2; Output Type: CMOS, TTL; Voltage - Supply: 2 V ~ 11 V, ±1 V ~ 5.5 V; Supplier 1: Digi-Key; Supplier Part Number 1: LTC1442CS8#PBF-ND; Supplier Part Number: LTC1442CS8#PBF-ND; Packaging: Tube; Category: Integrated Circuits (ICs); Type: with Voltage Reference; Supplier: Digi-Key; RoHS: RoHS Compliant; Package / Case: 8-SOIC (3.9mm Width)
footprint SO8
pins: 1, 2, 3, 4, 5, 6, 7, 8
text: V+; +; A; -; HYST; B; REF; V-

## LTC3404
designator U?
SYNCHRONOUS SWITCHER CONTROLLER; Supplier 1: Digi-Key; Supplier Part Number 1: LTC3404EMS8#PBF-ND
footprint MSOP8
pins: 1 RUN, 2 Ith, 3 Vfb, 4 GND, 5 SW, 6 Vin, 7 SYNC/MODE, 8 PLL LPF

## MAX232
designator U?
RS232 LEVEL SHIFTER; Manufacturer Part Number: MAX232DR; Manufacturer: Texas Instruments; Number of Drivers/Receivers: 2/2; Voltage - Supply: 4.5 V ~ 5.5 V; Supplier 1: Digi-Key; Supplier Part Number 1: 296-14619-1-ND; RoHS: RoHS Compliant; Packaging: Cut Tape (CT); Protocol: RS232; Type: Transceiver; Supplier Part Number: 296-14619-1-ND; Supplier: Digi-Key; Category: Integrated Circuits (ICs); Package / Case: 16-SOIC (3.9mm Width)
footprint SO16
pins: 1 C1+, 2 V+, 3 C1-, 4 C2+, 5 C2-, 6 V-, 7 T2OUT, 8 R2IN, 9 R2OUT, 10 T2IN, 11 T1IN, 12 R1OUT, 13 R1IN, 14 T1OUT, 15 GND hidden to GND, 16 VCC hidden to VCC

## MAX708R
designator U?
RESET GENERATOR WITH POWER FAIL DETECTOR; Manufacturer: Maxim Integrated Products; Manufacturer Part Number: MAX708RCSA+; Output: Push-Pull, Push-Pull; Number of Voltages Monitored: 1; Reset: Active High/Active Low; Voltage - Threshold: 2.63V; Reset Timeout: 140 ms Minimum; Supplier 1: Digi-Key; Supplier Part Number 1: MAX708RCSA+-ND; Package / Case: 8-SOIC (3.9mm Width); Operating Temperature: 0°C ~ 70°C; RoHS: RoHS Compliant; Supplier Part Number: MAX708RCSA+-ND; Category: Integrated Circuits (ICs); Type: Simple Reset/Power-On Reset; Supplier: Digi-Key; Packaging: Tube
footprint SO8
pins: 1 ~{MR}, 2 VCC, 3 GND, 4 PFI, 5 ~{PFO}, 7 ~{RST}, 8 RST

## MAX1236
designator U?
4 CHANNEL 12 BIT A/D; Manufacturer: Maxim Integrated Products; Manufacturer Part Number: MAX1236LEUA+T; Voltage Supply Source: Single Supply; Sampling Rate (Per Second): 94.4k; Number of Bits: 12; Number of Converters: 1; Number of Inputs and Type: 4 Single-Ended, Unipolar; 4 Single-Ended, Bipolar; 2 Differential, Unipolar; 2 Differential, Bipolar; Power Dissipation (Max): 3.35mW; Data Interface: Serial; Supplier 1: Digi-Key; Supplier Part Number 1: MAX1236LEUA+T-ND; Supplier Part Number: MAX1236LEUA+T-ND; Operating Temperature: -40°C ~ 85°C; RoHS: RoHS Compliant; Package / Case: 8-MSOP, Micro8™, 8-uMAX, 8-uSOP,; Category: Integrated Circuits (ICs); Supplier: Digi-Key; Packaging: Tape & Reel (TR)
pins: 1 IN1, 2 IN2, 3 IN3, 4 IN4, 5 SCL, 6 SDA, 7 AGND, 8 VDD, 11 AS, 12 ~{CON}, 13 BUSY

## MAX1238
designator U?
12 CHANNEL 12 BIT A/D CONVERTOR; Manufacturer: Maxim Integrated Products; Manufacturer Part Number: MAX1238EEE+; Number of Inputs and Type: 12 Single-Ended, Unipolar; 12 Single-Ended, Bipolar; 6 Differential, Unipolar; 6 Differential, Bipolar; Number of Converters: 1; Data Interface: Serial; Power Dissipation (Max): 3.35mW; Voltage Supply Source: Single Supply; Sampling Rate (Per Second): 94.4k; Number of Bits: 12; Supplier 1: Digi-Key; Supplier Part Number 1: MAX1238EEE+-ND; Packaging: Tube; Supplier: Digi-Key; Supplier Part Number: MAX1238EEE+-ND; RoHS: RoHS Compliant; Category: Integrated Circuits (ICs); Package / Case: 16-QSOP; Operating Temperature: -40°C ~ 85°C
footprint tssop16
pins: 1 IN1, 2 IN2, 3 IN3, 4 IN4, 5 IN5, 6 IN6, 7 IN7, 8 IN8, 9 SCL, 10 SDA, 11 GND, 12 VDD, 13 IN12, 14 IN11, 15 IN10, 16 IN9

## MAX3370
designator U?
BIDIRECTIONAL LEVEL SHIFTER; Manufacturer Part Number: MAX3370EXK-T; Manufacturer: Maxim Integrated Products; Output Type: Logic; Data Rate: 2Mbps; Supply Voltage: 2.5 V ~ 5.5 V; Number of Channels: 1; Supplier 1: Digi-Key; Supplier Part Number 1: MAX3370EXK-T-ND; Supplier Part Number: MAX3370EXK-T-ND; Package / Case: SC-70-5, SC-88A, SOT-323-5, SOT-353, 5-TSSOP; Category: Integrated Circuits (ICs); Operating Temperature: -40°C ~ 85°C; Supplier: Digi-Key; Input Type: Logic; RoHS: RoHS non-compliant; Packaging: Tape & Reel (TR)
footprint SC70-5
pins: 1 VA, 2, 3, 4, 5 VB

## MAX3371
designator U?
BIDIRECTIONAL LEVEL SHIFTER; Manufacturer: Maxim Integrated Products; Manufacturer Part Number: MAX3371EXT+T; Output Type: Logic; Number of Channels: 1; Data Rate: 2Mbps; Supply Voltage: 2.5 V ~ 5.5 V; Supplier 1: Digi-Key; Supplier Part Number 1: MAX3371EXT+TTR-ND; Supplier Part Number: MAX3371EXT+TTR-ND; Category: Integrated Circuits (ICs); Package / Case: SC-70-6, SC-88, SOT-323-6, SOT-363; Supplier: Digi-Key; Operating Temperature: -40°C ~ 85°C; Packaging: Tape & Reel (TR); Input Type: Logic; RoHS: RoHS Compliant
footprint SC70-6
pins: 1 VA, 2, 3, 4, 5, 6 VB

## MAX4213
designator U?
Supplier 1: Digi-Key; Supplier Part Number 1: MAX4213ESA+-ND
footprint SO8
pins: 2 -, 3 +, 4, 6, 7, 8

## MAX4461
designator U?
INSTRUMENTATION AMPLIFIER; Manufacturer Part Number: MAX4461TESA+; Manufacturer: Maxim Integrated Products; Text Field1: ST; Text Field2: LM2903DT; Text Field3: Avnet; Text Field5: SO8; Text Field6: 0.078; Current - Supply: 800µA; Output Type: Rail-to-Rail; Gain Bandwidth Product: 2.5MHz; Voltage - Supply, Single/Dual (±): 2.85 V ~ 5.25 V; Current - Output / Channel: 150mA; Slew Rate: 0.5 V/µs; Current - Input Bias: 1pA; Voltage - Input Offset: 50µV; Number of Circuits: 1; Text Field4: LM2903DT; NI?: *; O?: *; Section:: *; Supplier 1: Digi-Key; Supplier Part Number 1: MAX4461TESA+-ND; Supplier: Digi-Key; Operating Temperature: -40°C ~ 85°C; Packaging: Tube; Amplifier Type: Instrumentation; Category: Integrated Circuits (ICs); Package / Case: 8-SOIC (3.9mm Width); Supplier Part Number: MAX4461TESA+-ND; RoHS: RoHS Compliant
footprint SO8
pins: 1, 2 GND, 3, 6, 7 +, 8 SHDN

## MAX6675
designator *
THERMOCOUPLE INTERFACE
pins: 1 GND, 2 T-, 3 T+, 4 VCC, 5  SCK, 6 ~{CS}, 7 SO

## MAX31855
designator U?
Supplier 1: Mouser; Supplier Part Number 1: 700-MAX31855KASA+
footprint SO8
pins: 1 GND, 2 T-, 3 T+, 4 VCC, 5  SCK, 6 ~{CS}, 7 SO

## MCP3001
designator U?
10 BIT A/D CONVERTOR; Manufacturer: Microchip Technology; Manufacturer Part Number: MCP3001-I/SN; Number of Bits: 10; Sampling Rate (Per Second): 200k; Data Interface: Serial, SPI™; Number of Converters: 1; Voltage Supply Source: Single Supply; Number of Inputs and Type: 1 Pseudo-Differential, Unipolar; Supplier 1: Digi-Key; Supplier Part Number 1: MCP3001-I/SN-ND; Category: Integrated Circuits (ICs); Supplier Part Number: MCP3001-I/SN-ND; Supplier: Digi-Key; RoHS: RoHS Compliant; Power Dissipation (Max): -; Operating Temperature: -40°C ~ 85°C; Mounting Type: Surface Mount; Package / Case: 8-SOIC (3.9mm Width); Packaging: Tube; Supplier Device Package: *
footprint SO8
pins: 1 VREF, 2, 3, 4 VSS, 5 ~{CS}, 6 DO, 7 CLK, 8 VCC

## MCP3201
designator U?
12 BIT A/D CONVERTOR; Manufacturer Part Number: MCP3201-CI/SN; Manufacturer: Microchip Technology; Data Interface: Serial, SPI™; Number of Inputs and Type: 1 Single-Ended, Unipolar; Sampling Rate (Per Second): 100k; Number of Converters: 1; Number of Bits: 12; Voltage Supply Source: Single Supply; Supplier 1: Digi-Key; Supplier Part Number 1: MCP3201-CI/SN-ND; RoHS: RoHS Compliant; Power Dissipation (Max): -; Mounting Type: Surface Mount; Supplier: Digi-Key; Operating Temperature: -40°C ~ 85°C; Category: Integrated Circuits (ICs); Supplier Part Number: MCP3201-CI/SN-ND; Supplier Device Package: *; Packaging: Tube; Package / Case: 8-SOIC (3.9mm Width)
footprint SO8
pins: 1 VREF, 2, 3, 4 VSS, 5 ~{CS}, 6 DO, 7 CLK, 8 VCC

## MCP3301
designator U?
13 BIT A/D CONVERTOR; Manufacturer Part Number: MCP3301-BI/SN; Manufacturer: Microchip Technology; Voltage Supply Source: Single Supply; Number of Converters: 1; Data Interface: Serial, SPI™; Number of Bits: 13; Sampling Rate (Per Second): 100k; Supplier 1: Digi-Key; Supplier Part Number 1: MCP3301-BI/SN-ND; Supplier Part Number: MCP3301-BI/SN-ND; Supplier: Digi-Key; Number of Inputs and Type: *; Category: Integrated Circuits (ICs); Mounting Type: Surface Mount; Supplier Device Package: *; Packaging: Tube; RoHS: RoHS Compliant; Package / Case: 8-SOIC (3.9mm Width); Power Dissipation (Max): -; Operating Temperature: -40°C ~ 85°C
footprint SO8
pins: 1 VREF, 2, 3, 4 VSS, 5 ~{CS}, 6 DO, 7 CLK, 8 VCC

## MCP3550
designator U?
22 BIT A/D CONVERTOR; Manufacturer: Microchip Technology; Manufacturer Part Number: MCP3550-60E/SN; Voltage Supply Source: Single Supply; Number of Bits: 22; Sampling Rate (Per Second): 15; Number of Converters: 1; Data Interface: Serial, SPI™; Number of Inputs and Type: 1 Differential, Unipolar; Supplier 1: Digi-Key; Supplier Part Number 1: MCP3550-60E/SN-ND; Power Dissipation (Max): -; Supplier Part Number: MCP3550-60E/SN-ND; Packaging: Tube; Supplier Device Package: *; Supplier: Digi-Key; Operating Temperature: -40°C ~ 125°C; Package / Case: 8-SOIC (3.9mm Width); Mounting Type: Surface Mount; RoHS: RoHS Compliant
footprint SO8
pins: 1 VREF, 2, 3, 4 VSS, 5 CLK, 6 DO, 7 ~{CS}, 8 VCC

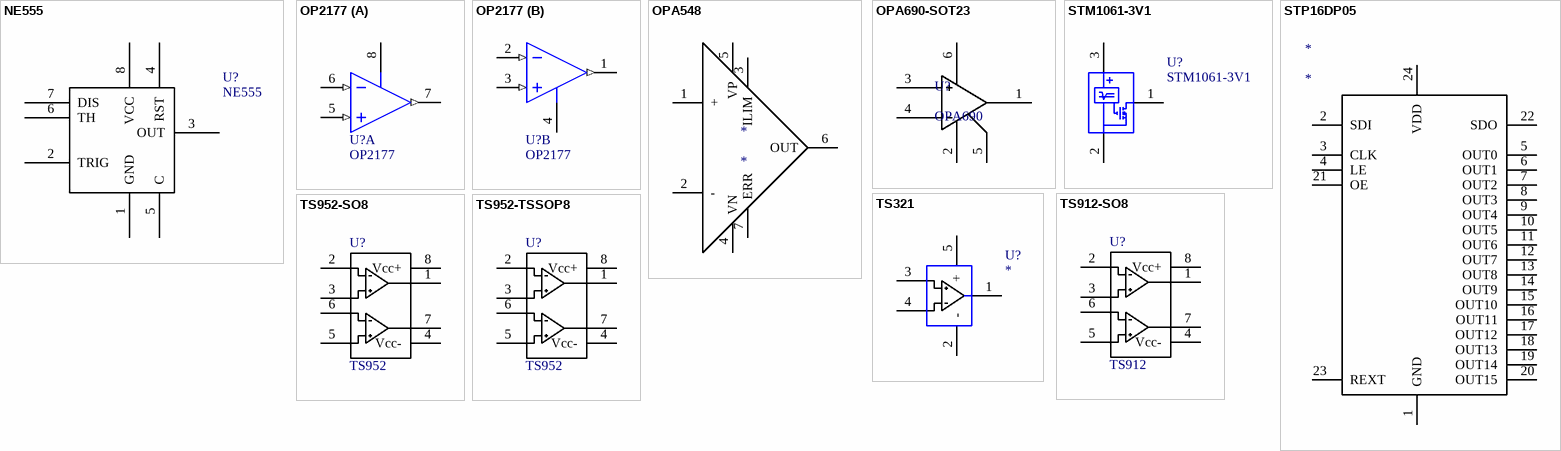
[diagram p3: symbols NE555 to TS952-TSSOP8]

## NE555
designator U?
TIMER IC; Manufacturer Part Number: NE555DT; Manufacturer: STMicroelectronics; Frequency: 500kHz; Voltage - Supply: 4.5 V ~ 16 V; Current: 200mA; Supplier 1: Digi-Key; Supplier Part Number 1: 497-1962-2-ND; Supplier: Digi-Key; Category: Integrated Circuits (ICs); Supplier Part Number: 497-1962-2-ND; Package / Case: 8-SOIC (3.9mm Width); Packaging: Tape & Reel (TR); RoHS: RoHS Compliant; Operating Temperature: 0°C ~ 70°C; Count: -; Type: 555 Type, Timer/Oscillator (Single)
footprint SO8
pins: 1 GND, 2 TRIG, 3 OUT, 4 RST, 5 C, 6 TH, 7 DIS, 8 VCC

## OP2177
designator U?
PRECISION OPAMP 1.3 MHz; Manufacturer: Analog Devices Inc; Manufacturer Part Number: OP2177ARZ-REEL; Slew Rate: 0.7 V/µs; Current - Supply: 400µA; Amplifier Type: General Purpose; Number of Circuits: 2; Current - Input Bias: 500pA; Voltage - Input Offset: 15µV; Gain Bandwidth Product: 1.3MHz; Current - Output / Channel: 10mA; Voltage - Supply, Single/Dual (±): 5 V ~ 36 V, ±2.5 V ~ 18 V; Supplier 1: Digi-Key; Supplier Part Number 1: OP2177ARZ-REEL-ND; Supplier: Digi-Key; RoHS: RoHS Compliant; Packaging: Tape & Reel (TR); Category: Integrated Circuits (ICs); Operating Temperature: -40°C ~ 125°C; Package / Case: 8-SOIC (3.9mm Width); Output Type: -; Supplier Part Number: OP2177ARZ-REEL-ND
footprint so8
part A pins: 5 (in), 6 (in), 7 OUT (out), 8 (power)
part B pins: 1 1 OUT (out), 2 1 IN- (in), 3 1 IN+ (in), 4 (power)

## OPA548
designator *
pins: 1 +, 2 -, 3 ILIM, 4 VN, 5 VP, 6 OUT, 7 ERR

## OPA690-SOT23
designator U?, comment OPA690
Supplier 1: Digi-Key; Supplier Part Number 1: OPA690IDBVRG4-ND
footprint SOT23-6
pins: 1, 2, 3 -, 4 +, 5, 6

## STM1061-3V1
designator U?
VOLTAGE DETECTOR 3.1V; Manufacturer: STMicroelectronics; Manufacturer Part Number: STM1061N31WX6F; Reset Timeout: 30 µs Typical Propagation Delay; Number of Voltages Monitored: 1; Output: Open Drain or Open Collector; Reset: Active Low; Supplier 1: Digi-Key; Supplier Part Number 1: 497-4957-1-ND; Voltage - Threshold: 3.1V; RoHS: RoHS Compliant; Supplier Part Number: 497-4957-1-ND; Operating Temperature: -40°C ~ 85°C; Type: Simple Reset/Power-On Reset; Category: Integrated Circuits (ICs); Packaging: Cut Tape (CT); Package / Case: SOT-23-3; Supplier: Digi-Key
footprint sot23-123
pins: 1 OUT, 2 GND, 3 VCC

## STP16DP05
designator *
pins: 1 GND, 2 SDI, 3 CLK, 4 LE, 5 OUT0, 6 OUT1, 7 OUT2, 8 OUT3, 9 OUT4, 10 OUT5, 11 OUT6, 12 OUT7, 13 OUT8, 14 OUT9, 15 OUT10, 16 OUT11, 17 OUT12, 18 OUT13, 19 OUT14, 20 OUT15, 21 OE, 22 SDO, 23 REXT, 24 VDD

## TS321
designator U?
LOW POWER OPAMP SOT23; Manufacturer Part Number: TS321ILT; Manufacturer: STMicroelectronics; Gain Bandwidth Product: 800kHz; Current - Supply: 600µA; Current - Output / Channel: 40mA; Number of Circuits: 1; Current - Input Bias: 20nA; Voltage - Supply, Single/Dual (±): 3 V ~ 30 V, ±1.5 V ~ 15 V; Voltage - Input Offset: 500µV; Amplifier Type: General Purpose; Slew Rate: 0.4 V/µs; Supplier 1: Digi-Key; Supplier Part Number 1: 497-4061-1-ND; Operating Temperature: -40°C ~ 125°C; RoHS: RoHS Compliant; Category: Integrated Circuits (ICs); Package / Case: SOT-23-5, SC-74A, SOT-25; Supplier Part Number: 497-4061-1-ND; Packaging: Cut Tape (CT); Supplier: Digi-Key; Output Type: -
footprint SOT23-5
pins: 1, 2 -, 3, 4, 5 +

## TS912-SO8
designator U?, comment TS912
DUAL RAIL TO RAIL OPAMP; Manufacturer Part Number: TS921ID; Manufacturer: STMicroelectronics; Number of Circuits: 1; Slew Rate: 1.3 V/µs; Current - Output / Channel: 80mA; Voltage - Supply, Single/Dual (±): 2.7 V ~ 12 V; Output Type: Rail-to-Rail; Current - Input Bias: 15nA; Gain Bandwidth Product: 4MHz; Amplifier Type: General Purpose; Voltage - Input Offset: 3000µV; Current - Supply: 1mA; NI?: *; O?: *; Section:: *; Supplier 1: Digi-Key; Supplier Part Number 1: TS921ID-ND; Category: Integrated Circuits (ICs); Supplier Part Number: TS921ID-ND; Packaging: Tube; RoHS: RoHS Compliant; Operating Temperature: -40°C ~ 125°C; Supplier: Digi-Key; Package / Case: 8-SOIC (3.9mm Width)
footprint SO8
pins: 1, 2, 3, 4 Vcc-, 5, 6, 7, 8 Vcc+

## TS952-SO8
designator U?, comment TS952
DUAL RAIL TO RAIL OPAMP; Manufacturer Part Number: TS952IYDT; Manufacturer: STMicroelectronics; Gain Bandwidth Product: 3MHz; Current - Supply: 950µA; Output Type: Rail-to-Rail; Current - Input Bias: 35nA; Amplifier Type: General Purpose; Voltage - Supply, Single/Dual (±): 2.7 V ~ 12 V; Slew Rate: 1 V/µs; Voltage - Input Offset: 6000µV; Current - Output / Channel: 10mA; Number of Circuits: 2; NI?: *; O?: *; Section:: *; Supplier 1: Digi-Key; Supplier Part Number 1: 497-4777-6-ND; Operating Temperature: -40°C ~ 125°C; Package / Case: 8-SOIC (3.9mm Width); Supplier: Digi-Key; Category: Integrated Circuits (ICs); Packaging: Digi-Reel®; Supplier Part Number: 497-4777-6-ND; RoHS: RoHS Compliant
footprint SO8
pins: 1, 2, 3, 4 Vcc-, 5, 6, 7, 8 Vcc+

## TS952-TSSOP8
designator U?, comment TS952
DUAL RAIL TO RAIL OPAMP; Manufacturer Part Number: TS952IYPT; Manufacturer: STMicroelectronics; Supplier 1: Digi-Key; Supplier Part Number 1: 497-10266-2-ND
footprint TSSOP8
pins: 1, 2, 3, 4 Vcc-, 5, 6, 7, 8 Vcc+